# Altium schematic symbol library 1217AS-H-1R5N=P3.SchLib: 1 symbol
Pins are listed as number, name and electrical type; pins without a type are passive.

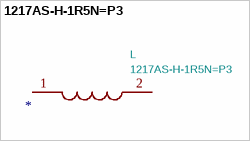
[diagram p0: symbol 1217AS-H-1R5N=P3]

## 1217AS-H-1R5N=P3
designator L  value 1217AS-H-1R5N=P3
DEM8045C Series Inductor 1.5uH +/-30% 3131 (8080); Manufacturer_Name: Murata Electronics; Footprint: INDPM8282X450N; Supplier: https://psearch.en.murata.com/inductor/product/1217AS-H-1R5N%23.html; Description_: DEM8045C Series Inductor 1.5uH +/-30% 3131 (8080); Height: 4.5; Manufacturer_Part_Number: 1217AS-H-1R5N=P3; Mouser Part Number: 81-1217AS-H-1R5NP3; Mouser Price/Stock: https://www.mouser.com/Search/Refine.aspx?Keyword=81-1217AS-H-1R5NP3
footprint INDPM8282X450N
pins: 1, 2